# Altium schematic symbol library OPA2197.SchLib: 1 symbol
Pins are listed as number, name and electrical type; pins without a type are passive.

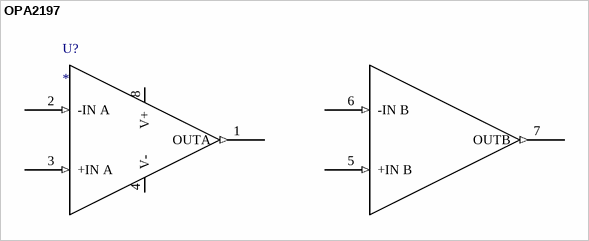
[diagram p0: symbol OPA2197]

## OPA2197
designator U?
footprint SOIC127P600X175-8N (SOIC, 8-Leads, Body 4.91x3.90mm, Pitch 1.27mm, IPC Medium Density)
pins: 1 OUTA (out), 2 -IN A (in), 3 +IN A (in), 4 V- (power), 5 +IN B (in), 6 -IN B (in), 7 OUTB (out), 8 V+ (power)